# Altium schematic symbol library SnapEDAsch.SchLib: 1 symbol
Pins are listed as number, name and electrical type; pins without a type are passive.

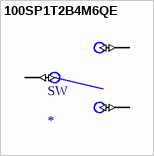
[diagram p0: symbol 100SP1T2B4M6QE]

## 100SP1T2B4M6QE
designator SW
Toggle Switch SPDT Through Hole, Right Angle; MF: E-Switch; MP: 100SP1T2B4M6QE; Value: *; Package: None; Price: None; Availability: Unavailable; SnapEDA_Link: https://www.snapeda.com/parts/100SP1T2B4M6QE/E-Switch/view-part/584067/?ref=snap
footprint TOGGLE_RA
pins: 1 P$2 (io), 2 COM (io), 3 P$3 (io)